# Altium integrated library ADUM1401BRWZ.IntLib: 1 symbol
Pins are listed as number, name and electrical type; pins without a type are passive.

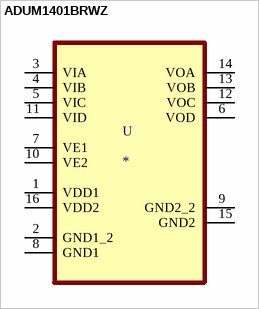
[diagram p0: symbol ADUM1401BRWZ]

## ADUM1401BRWZ
designator U
General Purpose Digital Isolator 2500Vrms 4 Channel 10Mbps 25kV/Âµs CMTI 16-SOIC _0.295, 7.50mm Width_; MF: Analog Devices; MP: ADUM1401BRWZ; SnapEDA_Link: https://www.snapeda.com/parts/ADUM1401BRWZ/Analog%20Devices%20Inc./view-part/1210796/?ref=snap; Package: SOIC WIDE-16 Analog Devices; Price: None; Value: *; Availability: Unavailable
footprint SOIC127P1032X265-16N
pins: 1 VDD1 (power), 2 GND1_2, 3 VIA, 4 VIB, 5 VIC, 6 VOD, 7 VE1, 8 GND1, 9 GND2_2, 10 VE2, 11 VID, 12 VOC, 13 VOB, 14 VOA, 15 GND2, 16 VDD2 (power)